# Altium integrated library LT1306ES8_PBF.IntLib: 1 symbol
Pins are listed as number, name and electrical type; pins without a type are passive.

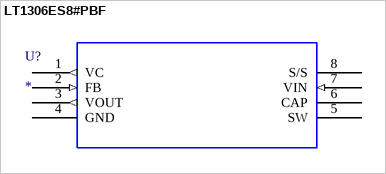
[diagram p0: symbol LT1306ES8#PBF]

## LT1306ES8#PBF
designator U?
Boost Switching Regulator IC Positive Fixed 5V 1 Output 2.3A (Switch) 8-SOIC (0.154, 3.90mm Width); MF: Analog Devices Inc.; MP: LT1306ES8#PBF; Purchase-URL: https://pricing.snapeda.com/search/part/LT1306ES8#PBF/?ref=eda; Package: None; Check_prices: https://www.snapeda.com/parts/LT1306ES8%23PBF/Analog+Devices/view-part/?ref=eda; Digi-Key_Part_Number: LT1306ES8#PBF-ND; Value: *; SnapEDA_Link: https://www.snapeda.com/parts/LT1306ES8%23PBF/Analog+Devices/view-part/?ref=snap
footprint SO-8_S
pins: 1 VC (out), 2 FB (in), 3 VOUT (out), 4 GND (power), 5 SW, 6 CAP, 7 VIN (in), 8 S/S